# Altium schematic symbol library KXTJ3-1057.SchLib: 1 symbol
Pins are listed as number, name and electrical type; pins without a type are passive.

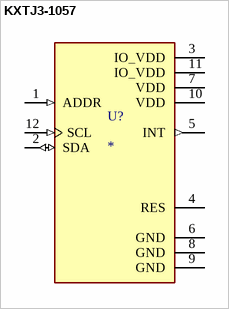
[diagram p0: symbol KXTJ3-1057]

## KXTJ3-1057
designator U?
Accelerometer X, Y, Z Axis Â±2g, 4g, 8g, 16g 800Hz 12-LGA _2x2_; MP: KXTJ3-1057; MF: Kionix Inc.; Package: LGA-12 Kionix; Availability: Unavailable; Price: None; Value: *; SnapEDA_Link: https://www.snapeda.com/parts/KXTJ3-1057/Kionix%20Inc./view-part/2529319/?ref=snap
footprint KIONIX_KXTJ3-1057
pins: 1 ADDR (in), 2 SDA (io), 3 IO_VDD (power), 4 RES, 5 INT (out), 6 GND (power), 7 VDD (power), 8 GND (power), 9 GND (power), 10 VDD (power), 11 IO_VDD (power), 12 SCL (in)